# Altium integrated library Analog Devices Data Converters Analog-to-Digital Converters.IntLib: 2404 symbols (part 317 of 346)
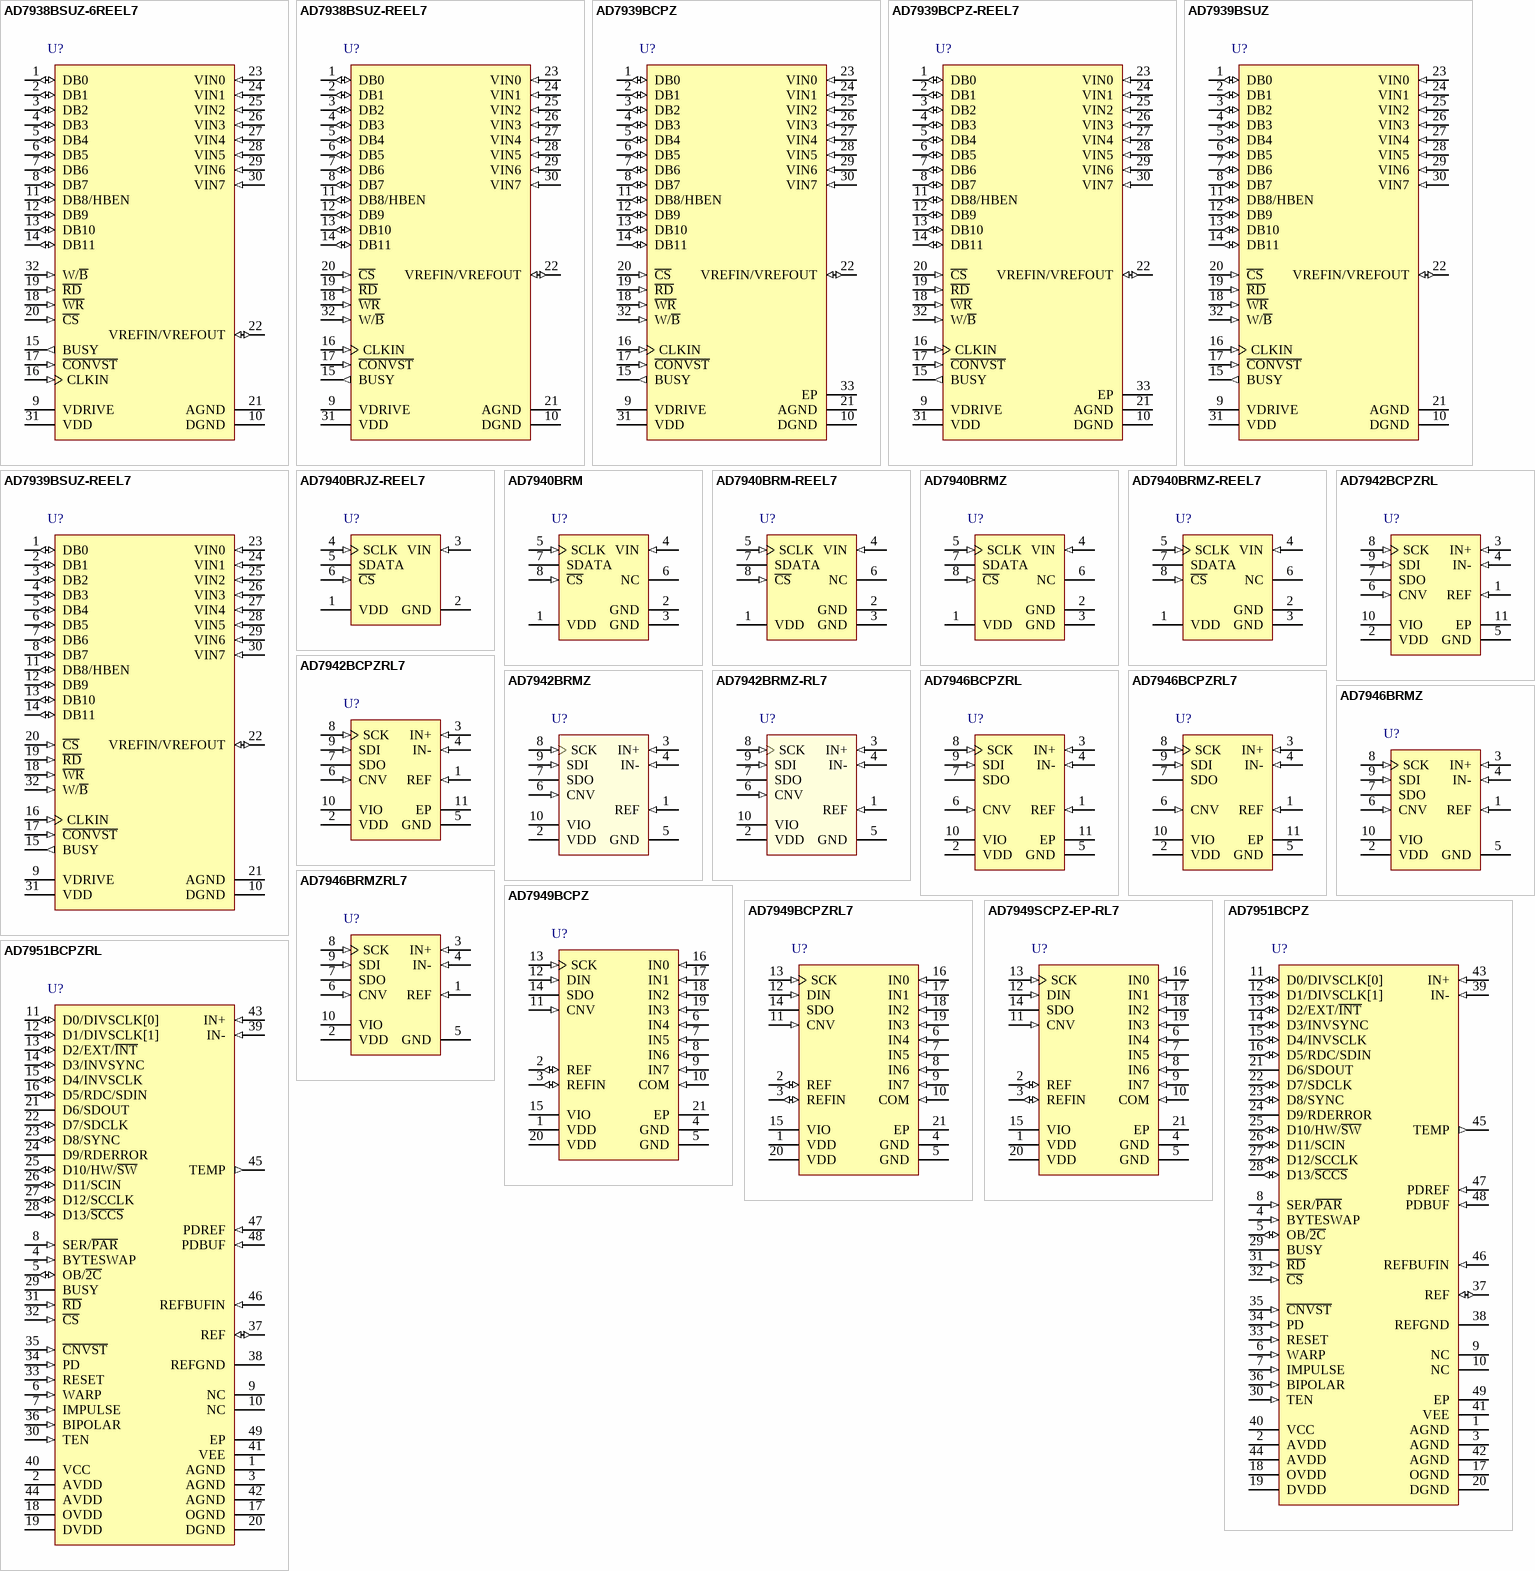
[diagram p325: symbols AD7938BSUZ-6REEL7 to AD7951BCPZRL]

## AD7939BSUZ-REEL7
designator U?
Octal 10-Bit Analog-to-Digital Converter with Byte, Parallel Interface and Sequencer, 1.5MSPS, -40 to +85 degC, SU-32-2, Pb-Free, Reel; Generic Part Number: AD7939; Manufacturer: Analog Devices; PartNumber: AD7939BSUZ-REEL7; Resolution (Bits): 10; Channels: 8; Throughput Rate (SPS): 1.5M; DatasheetVersion: Rev.C; PackageVersion: 2004; PackageReference: SU-32-2; PackageDescription: 32-Lead Thin Plastic Quad Flat Package [TQFP]; Supplier 1: Digi-Key; Supplier Part Number 1: AD7939BSUZ-REEL7-ND; Supplier 2: Mouser; Supplier Part Number 2: 584-AD7939BSUZ-R7; Interface: Byte, Par; RoHS: Y; Packing: Reel; Mounting Technology: Surface Mount; Code_JEDEC: MS-026-ABA; ComponentLink1Description: Manufacturer URL; ComponentLink1URL: http://www.analog.com/en/index.html; ComponentLink2Description: Datasheet; ComponentLink2URL: http://www.analog.com/static/imported-files/data_sheets/AD7938_7939.pdf; ComponentLink3Description: Package Specification; ComponentLink3URL: http://www.analog.com/static/imported-files/packages/6298531260360306615SU_32_2.pdf; ComponentLink4Description: Product URL; ComponentLink4URL: http://www.analog.com/en/analog-to-digital-converters/ad-converters/ad7939/products/product.html
footprint SU-32-2_N (Thin QFP, 32-Leads, Body 7x7mm, Pitch 0.8mm, IPC Medium Density)
footprint SU-32-2_L (Thin QFP, 32-Leads, Body 7x7mm, Pitch 0.8mm, IPC High Density)
footprint SU-32-2_M (Thin QFP, 32-Leads, Body 7x7mm, Pitch 0.8mm, IPC Low Density)
pins: 1 DB0 (io) "Data Bit 0 to Data Bit 7. Three-state parallel digital I/O pins that provide the conversion result and allow the control and shadow registers to be programmed. These pins are controlled by C\S\, R\D\, and W\R\. The logic (See Datasheet)", 2 DB1 (io) "Data Bit 0 to Data Bit 7. Three-state parallel digital I/O pins that provide the conversion result and allow the control and shadow registers to be programmed. These pins are controlled by C\S\, R\D\, and W\R\. The logic (See Datasheet)", 3 DB2 (io) "Data Bit 0 to Data Bit 7. Three-state parallel digital I/O pins that provide the conversion result and allow the control and shadow registers to be programmed. These pins are controlled by C\S\, R\D\, and W\R\. The logic (See Datasheet)", 4 DB3 (io) "Data Bit 0 to Data Bit 7. Three-state parallel digital I/O pins that provide the conversion result and allow the control and shadow registers to be programmed. These pins are controlled by C\S\, R\D\, and W\R\. The logic (See Datasheet)", 5 DB4 (io) "Data Bit 0 to Data Bit 7. Three-state parallel digital I/O pins that provide the conversion result and allow the control and shadow registers to be programmed. These pins are controlled by C\S\, R\D\, and W\R\. The logic (See Datasheet)", 6 DB5 (io) "Data Bit 0 to Data Bit 7. Three-state parallel digital I/O pins that provide the conversion result and allow the control and shadow registers to be programmed. These pins are controlled by C\S\, R\D\, and W\R\. The logic (See Datasheet)", 7 DB6 (io) "Data Bit 0 to Data Bit 7. Three-state parallel digital I/O pins that provide the conversion result and allow the control and shadow registers to be programmed. These pins are controlled by C\S\, R\D\, and W\R\. The logic (See Datasheet)", 8 DB7 (io) "Data Bit 0 to Data Bit 7. Three-state parallel digital I/O pins that provide the conversion result and allow the control and shadow registers to be programmed. These pins are controlled by C\S\, R\D\, and W\R\. The logic (See Datasheet)", 9 VDRIVE (power) "Logic Power Supply Input. The voltage supplied at this pin determines at what voltage the parallel interface of the AD7938/AD7939 operates. This pin should be decoupled to DGND. The voltage at this pin can be different to (See Datasheet)", 10 DGND (power) "Digital Ground. This is the ground reference point for all digital circuitry on the AD7938/AD7939. This pin should connect to the DGND plane of a system. The DGND and AGND voltages should ideally be at the same potential and (See Datasheet)", 11 DB8/HBEN (io) "Data Bit 8/High Byte Enable. When W/B\ is high, this pin acts as Data Bit 8, a three-state I/O pin that is controlled by C\S\, R\D\, and W\R\. When W/B\ is low, this pin acts as the high byte enable pin. When HBEN is low, (See Datasheet)", 12 DB9 (io) "Data Bit 9 to Data Bit 11. Three-state parallel digital I/O pins that provide the conversion result and allow the control and shadow registers to be programmed in word mode. These pins are controlled by C\S\, R\D\, and W\R\. (See Datasheet)", 13 DB10 (io) "Data Bit 9 to Data Bit 11. Three-state parallel digital I/O pins that provide the conversion result and allow the control and shadow registers to be programmed in word mode. These pins are controlled by C\S\, R\D\, and W\R\. (See Datasheet)", 14 DB11 (io) "Data Bit 9 to Data Bit 11. Three-state parallel digital I/O pins that provide the conversion result and allow the control and shadow registers to be programmed in word mode. These pins are controlled by C\S\, R\D\, and W\R\. (See Datasheet)", 15 BUSY (out) "Busy Output. Logic output that indicates the status of the conversion. The BUSY output goes high following the falling edge of C\O\N\V\S\T\ and stays high for the duration of the conversion. Once the conversion is complete (See Datasheet)", 16 CLKIN (in) "Master Clock Input. The clock source for the conversion process is applied to this pin. Conversion time for the AD7938/AD7939 takes 13 clock cycles + t2. The frequency of the master clock input therefore determines the (See Datasheet)", 17 ~{CONVST} (in) "Conversion Start Input. A falling edge on C\O\N\V\S\T\ is used to initiate a conversion. The track-and-hold goes from track mode to hold mode on the falling edge of C\O\N\V\S\T\ and the conversion process is initiated at (See Datasheet)", 18 ~{WR} (in) "Write Input. Active low logic input used in conjunction with C\S\ to write data to the internal registers.", 19 ~{RD} (in) "Read Input. Active low logic input used in conjunction with C\S\ to access the conversion result. The conversion result is placed on the data bus following the falling edge of R\D\ read while C\S\ is low.", 20 ~{CS} (in) "Chip Select. Active low logic input used in conjunction with R\D\ and W\R\ to read conversion data or to write data to the internal registers.", 21 AGND (power) "Analog Ground. This is the ground reference point for all analog circuitry on the AD7938/AD7939. All analog input signals and any external reference signal should be referred to this AGND voltage. The AGND and DGND voltages (See Datasheet)", 22 VREFIN/VREFOUT (io) "Reference Input/Output. This pin is connected to the internal reference and is the reference source for the ADC. The nominal internal reference voltage is 2.5 V, which appears at this pin. It is recommended that this pin is (See Datasheet)", 23 VIN0 (in) "Analog Input 0 to Analog Input 7. Eight analog input channels that are multiplexed into the on-chip track-and-hold. The analog inputs can be programmed to be eight single-ended inputs, four fully differential pairs, four (See Datasheet)", 24 VIN1 (in) "Analog Input 0 to Analog Input 7. Eight analog input channels that are multiplexed into the on-chip track-and-hold. The analog inputs can be programmed to be eight single-ended inputs, four fully differential pairs, four (See Datasheet)", 25 VIN2 (in) "Analog Input 0 to Analog Input 7. Eight analog input channels that are multiplexed into the on-chip track-and-hold. The analog inputs can be programmed to be eight single-ended inputs, four fully differential pairs, four (See Datasheet)", 26 VIN3 (in) "Analog Input 0 to Analog Input 7. Eight analog input channels that are multiplexed into the on-chip track-and-hold. The analog inputs can be programmed to be eight single-ended inputs, four fully differential pairs, four (See Datasheet)", 27 VIN4 (in) "Analog Input 0 to Analog Input 7. Eight analog input channels that are multiplexed into the on-chip track-and-hold. The analog inputs can be programmed to be eight single-ended inputs, four fully differential pairs, four (See Datasheet)", 28 VIN5 (in) "Analog Input 0 to Analog Input 7. Eight analog input channels that are multiplexed into the on-chip track-and-hold. The analog inputs can be programmed to be eight single-ended inputs, four fully differential pairs, four (See Datasheet)", 29 VIN6 (in) "Analog Input 0 to Analog Input 7. Eight analog input channels that are multiplexed into the on-chip track-and-hold. The analog inputs can be programmed to be eight single-ended inputs, four fully differential pairs, four (See Datasheet)", 30 VIN7 (in) "Analog Input 0 to Analog Input 7. Eight analog input channels that are multiplexed into the on-chip track-and-hold. The analog inputs can be programmed to be eight single-ended inputs, four fully differential pairs, four (See Datasheet)", 31 VDD (power) "Power Supply Input. The VDD range for the AD7938/AD7939 is 2.7 V to 5.25 V. The supply should be decoupled to AGND with a 0.1 uF capacitor and a 10 uF tantalum capacitor.", 32 W/~{B} (in) "Word/Byte Input. When this input is logic high, data is transferred to and from the AD7938/AD7939 in 12-bit/10-bit words on the DB0/DB2 to DB11 pins. When this pin is logic low, byte transfer mode is enabled. Data and the (See Datasheet)"

## AD7940BRJZ-REEL7
designator U?
Single 14-Bit Analog-to-Digital Converter with Serial, SPI Interface, 100KSPS, -40 to +85 degC, RJ-6, Pb-Free, Reel; Generic Part Number: AD7940; Manufacturer: Analog Devices; PartNumber: AD7940BRJZ-REEL7; Resolution (Bits): 14; Channels: 1; Throughput Rate (SPS): 100K; Interface: Ser, SPI; DatasheetVersion: Rev.A; PackageVersion: 121608-A; PackageReference: RJ-6; PackageDescription: 6-Lead Small Outline Transistor Package [SOT-23]; Supplier 1: Digi-Key; Supplier Part Number 1: AD7940BRJZ-REEL7TR-ND; Supplier 2: Digi-Key; Supplier Part Number 2: AD7940BRJZ-REEL7CT-ND; Supplier 3: Digi-Key; Supplier Part Number 3: AD7940BRJZ-REEL7DKR-ND; Supplier 4: Farnell; Supplier Part Number 4: 2314108; Supplier 5: Newark; Supplier Part Number 5: 67W2740; Supplier 6: Newark; Supplier Part Number 6: 59K6058; Supplier 7: Mouser; Supplier Part Number 7: 584-AD7940BRJZ-R7; RoHS: Y; Packing: Reel; Mounting Technology: Surface Mount; Code_JEDEC: MO-178-AB; ComponentLink1Description: Manufacturer URL; ComponentLink1URL: http://www.analog.com/en/index.html; ComponentLink2Description: Datasheet; ComponentLink2URL: http://www.analog.com/static/imported-files/data_sheets/AD7940.pdf; ComponentLink3Description: Package Specification; ComponentLink3URL: http://www.analog.com/static/imported-files/packages/PKG_PDF/SOT-23(RJ)/RJ_6.pdf; ComponentLink4Description: Product URL; ComponentLink4URL: http://www.analog.com/en/analog-to-digital-converters/ad-converters/ad7940/products/product.html
footprint RJ-6_N (SOT23, 6-Leads, Body 2.9x1.6mm, Pitch 0.95mm, Lead Span 2.8mm, IPC Medium Density)
footprint RJ-6_L (SOT23, 6-Leads, Body 2.9x1.6mm, Pitch 0.95mm, Lead Span 2.8mm, IPC High Density)
footprint RJ-6_M (SOT23, 6-Leads, Body 2.9x1.6mm, Pitch 0.95mm, Lead Span 2.8mm, IPC Low Density)
pins: 1 VDD (power) "Power Supply Input. The VDD range for the AD7940 is from 2.5 V to 5.5 V.", 2 GND (power) "Analog Ground. Ground reference point for all circuitry on the AD7940. All analog input signals should be referred to this GND voltage.", 3 VIN (in) "Analog Input. Single-ended analog input channel. The input range is 0 V to VDD.", 4 SCLK (in) "Serial Clock. Logic input. SCLK provides the serial clock for accessing data from this part. This clock input is also used as the clock source for the AD7940's conversion process.", 5 SDATA (hiz) "Data Out. Logic output. The conversion result from the AD7940 is provided on this output as a serial data stream. The bits are clocked out on the falling edge of the SCLK input. The data stream from the AD7940 consists of (See Datasheet)", 6 ~{CS} (in) "Chip Select. Active low logic input. This input provides the dual function of initiating conversions on the AD7940 and framing the serial data transfer."

## AD7940BRM
designator U?
Single 14-Bit Analog-to-Digital Converter with Serial, SPI Interface, 100KSPS, -40 to +85 degC, RM-8, Tube; Generic Part Number: AD7940; Manufacturer: Analog Devices; PartNumber: AD7940BRM; Resolution (Bits): 14; Channels: 1; Throughput Rate (SPS): 100K; Interface: Ser, SPI; DatasheetVersion: Rev.A; PackageVersion: Aug-2005; PackageReference: RM-8; PackageDescription: 8-Lead Mini Small Outline Package [MSOP]; Supplier 1: Digi-Key; Supplier Part Number 1: AD7940BRM-ND; Supplier 2: Farnell; Supplier Part Number 2: 8397783; Supplier 3: Newark; Supplier Part Number 3: 31M4413; Supplier 4: Mouser; Supplier Part Number 4: 584-AD7940BRM; RoHS: N; Packing: Tube; Mounting Technology: Surface Mount; Code_JEDEC: MO-187-AA; ComponentLink1Description: Manufacturer URL; ComponentLink1URL: http://www.analog.com/en/index.html; ComponentLink2Description: Datasheet; ComponentLink2URL: http://www.analog.com/static/imported-files/data_sheets/AD7940.pdf; ComponentLink3Description: Package Specification; ComponentLink3URL: http://www.analog.com/static/imported-files/packages/PKG_PDF/MSOP%28RM%29/RM_8.pdf; ComponentLink4Description: Product URL; ComponentLink4URL: http://www.analog.com/en/analog-to-digital-converters/ad-converters/ad7940/products/product.html
footprint RM-8_N (TSOP, 8-Leads, Body 3x3mm, Pitch 0.65mm, IPC Medium Density)
footprint RM-8_L (TSOP, 8-Leads, Body 3x3mm, Pitch 0.65mm, IPC High Density)
footprint RM-8_M (TSOP, 8-Leads, Body 3x3mm, Pitch 0.65mm, IPC Low Density)
pins: 1 VDD (power) "Power Supply Input. The VDD range for the AD7940 is from 2.5 V to 5.5 V.", 2 GND (power) "Analog Ground. Ground reference point for all circuitry on the AD7940. All analog input signals should be referred to this GND voltage.", 3 GND (power) "Analog Ground. Ground reference point for all circuitry on the AD7940. All analog input signals should be referred to this GND voltage.", 4 VIN (in) "Analog Input. Single-ended analog input channel. The input range is 0 V to VDD.", 5 SCLK (in) "Serial Clock. Logic input. SCLK provides the serial clock for accessing data from this part. This clock input is also used as the clock source for the AD7940's conversion process.", 6 NC "No Connect. This pin should be left unconnected.", 7 SDATA (hiz) "Data Out. Logic output. The conversion result from the AD7940 is provided on this output as a serial data stream. The bits are clocked out on the falling edge of the SCLK input. The data stream from the AD7940 consists of (See Datasheet)", 8 ~{CS} (in) "Chip Select. Active low logic input. This input provides the dual function of initiating conversions on the AD7940 and framing the serial data transfer."

## AD7940BRM-REEL7
designator U?
Single 14-Bit Analog-to-Digital Converter with Serial, SPI Interface, 100KSPS, -40 to +85 degC, RM-8, Reel; Generic Part Number: AD7940; Manufacturer: Analog Devices; PartNumber: AD7940BRM-REEL7; Resolution (Bits): 14; Channels: 1; Throughput Rate (SPS): 100K; Interface: Ser, SPI; DatasheetVersion: Rev.A; PackageVersion: Aug-2005; PackageReference: RM-8; PackageDescription: 8-Lead Mini Small Outline Package [MSOP]; Supplier 1: Digi-Key; Supplier Part Number 1: AD7940BRM-REEL7TR-ND; Supplier 2: Mouser; Supplier Part Number 2: 584-AD7940BRM-R7; RoHS: N; Packing: Reel; Mounting Technology: Surface Mount; Code_JEDEC: MO-187-AA; ComponentLink1Description: Manufacturer URL; ComponentLink1URL: http://www.analog.com/en/index.html; ComponentLink2Description: Datasheet; ComponentLink2URL: http://www.analog.com/static/imported-files/data_sheets/AD7940.pdf; ComponentLink3Description: Package Specification; ComponentLink3URL: http://www.analog.com/static/imported-files/packages/PKG_PDF/MSOP%28RM%29/RM_8.pdf; ComponentLink4Description: Product URL; ComponentLink4URL: http://www.analog.com/en/analog-to-digital-converters/ad-converters/ad7940/products/product.html
footprint RM-8_N (TSOP, 8-Leads, Body 3x3mm, Pitch 0.65mm, IPC Medium Density)
footprint RM-8_L (TSOP, 8-Leads, Body 3x3mm, Pitch 0.65mm, IPC High Density)
footprint RM-8_M (TSOP, 8-Leads, Body 3x3mm, Pitch 0.65mm, IPC Low Density)
pins: 1 VDD (power) "Power Supply Input. The VDD range for the AD7940 is from 2.5 V to 5.5 V.", 2 GND (power) "Analog Ground. Ground reference point for all circuitry on the AD7940. All analog input signals should be referred to this GND voltage.", 3 GND (power) "Analog Ground. Ground reference point for all circuitry on the AD7940. All analog input signals should be referred to this GND voltage.", 4 VIN (in) "Analog Input. Single-ended analog input channel. The input range is 0 V to VDD.", 5 SCLK (in) "Serial Clock. Logic input. SCLK provides the serial clock for accessing data from this part. This clock input is also used as the clock source for the AD7940's conversion process.", 6 NC "No Connect. This pin should be left unconnected.", 7 SDATA (hiz) "Data Out. Logic output. The conversion result from the AD7940 is provided on this output as a serial data stream. The bits are clocked out on the falling edge of the SCLK input. The data stream from the AD7940 consists of (See Datasheet)", 8 ~{CS} (in) "Chip Select. Active low logic input. This input provides the dual function of initiating conversions on the AD7940 and framing the serial data transfer."

## AD7940BRMZ
designator U?
Single 14-Bit Analog-to-Digital Converter with Serial, SPI Interface, 100KSPS, -40 to +85 degC, RM-8, Pb-Free, Tube; Generic Part Number: AD7940; Manufacturer: Analog Devices; PartNumber: AD7940BRMZ; Resolution (Bits): 14; Channels: 1; Throughput Rate (SPS): 100K; Interface: Ser, SPI; DatasheetVersion: Rev.A; PackageVersion: Aug-2005; PackageReference: RM-8; PackageDescription: 8-Lead Mini Small Outline Package [MSOP]; Supplier 1: Digi-Key; Supplier Part Number 1: AD7940BRMZ-ND; Supplier 2: Newark; Supplier Part Number 2: 74R5997; Supplier 3: Mouser; Supplier Part Number 3: 584-AD7940BRMZ; RoHS: Y; Packing: Tube; Mounting Technology: Surface Mount; Code_JEDEC: MO-187-AA; ComponentLink1Description: Manufacturer URL; ComponentLink1URL: http://www.analog.com/en/index.html; ComponentLink2Description: Datasheet; ComponentLink2URL: http://www.analog.com/static/imported-files/data_sheets/AD7940.pdf; ComponentLink3Description: Package Specification; ComponentLink3URL: http://www.analog.com/static/imported-files/packages/PKG_PDF/MSOP%28RM%29/RM_8.pdf; ComponentLink4Description: Product URL; ComponentLink4URL: http://www.analog.com/en/analog-to-digital-converters/ad-converters/ad7940/products/product.html
footprint RM-8_N (TSOP, 8-Leads, Body 3x3mm, Pitch 0.65mm, IPC Medium Density)
footprint RM-8_L (TSOP, 8-Leads, Body 3x3mm, Pitch 0.65mm, IPC High Density)
footprint RM-8_M (TSOP, 8-Leads, Body 3x3mm, Pitch 0.65mm, IPC Low Density)
pins: 1 VDD (power) "Power Supply Input. The VDD range for the AD7940 is from 2.5 V to 5.5 V.", 2 GND (power) "Analog Ground. Ground reference point for all circuitry on the AD7940. All analog input signals should be referred to this GND voltage.", 3 GND (power) "Analog Ground. Ground reference point for all circuitry on the AD7940. All analog input signals should be referred to this GND voltage.", 4 VIN (in) "Analog Input. Single-ended analog input channel. The input range is 0 V to VDD.", 5 SCLK (in) "Serial Clock. Logic input. SCLK provides the serial clock for accessing data from this part. This clock input is also used as the clock source for the AD7940's conversion process.", 6 NC "No Connect. This pin should be left unconnected.", 7 SDATA (hiz) "Data Out. Logic output. The conversion result from the AD7940 is provided on this output as a serial data stream. The bits are clocked out on the falling edge of the SCLK input. The data stream from the AD7940 consists of (See Datasheet)", 8 ~{CS} (in) "Chip Select. Active low logic input. This input provides the dual function of initiating conversions on the AD7940 and framing the serial data transfer."

## AD7940BRMZ-REEL7
designator U?
Single 14-Bit Analog-to-Digital Converter with Serial, SPI Interface, 100KSPS, -40 to +85 degC, RM-8, Pb-Free, Reel; Generic Part Number: AD7940; Manufacturer: Analog Devices; PartNumber: AD7940BRMZ-REEL7; Resolution (Bits): 14; Channels: 1; Throughput Rate (SPS): 100K; Interface: Ser, SPI; DatasheetVersion: Rev.A; PackageVersion: Aug-2005; PackageReference: RM-8; PackageDescription: 8-Lead Mini Small Outline Package [MSOP]; Supplier 1: Digi-Key; Supplier Part Number 1: AD7940BRMZ-REEL7TR-ND; Supplier 2: Digi-Key; Supplier Part Number 2: AD7940BRMZ-REEL7CT-ND; Supplier 3: Digi-Key; Supplier Part Number 3: AD7940BRMZ-REEL7DKR-ND; Supplier 4: Mouser; Supplier Part Number 4: 584-AD7940BRMZ-R7; RoHS: Y; Packing: Reel; Mounting Technology: Surface Mount; Code_JEDEC: MO-187-AA; ComponentLink1Description: Manufacturer URL; ComponentLink1URL: http://www.analog.com/en/index.html; ComponentLink2Description: Datasheet; ComponentLink2URL: http://www.analog.com/static/imported-files/data_sheets/AD7940.pdf; ComponentLink3Description: Package Specification; ComponentLink3URL: http://www.analog.com/static/imported-files/packages/PKG_PDF/MSOP%28RM%29/RM_8.pdf; ComponentLink4Description: Product URL; ComponentLink4URL: http://www.analog.com/en/analog-to-digital-converters/ad-converters/ad7940/products/product.html
footprint RM-8_N (TSOP, 8-Leads, Body 3x3mm, Pitch 0.65mm, IPC Medium Density)
footprint RM-8_L (TSOP, 8-Leads, Body 3x3mm, Pitch 0.65mm, IPC High Density)
footprint RM-8_M (TSOP, 8-Leads, Body 3x3mm, Pitch 0.65mm, IPC Low Density)
pins: 1 VDD (power) "Power Supply Input. The VDD range for the AD7940 is from 2.5 V to 5.5 V.", 2 GND (power) "Analog Ground. Ground reference point for all circuitry on the AD7940. All analog input signals should be referred to this GND voltage.", 3 GND (power) "Analog Ground. Ground reference point for all circuitry on the AD7940. All analog input signals should be referred to this GND voltage.", 4 VIN (in) "Analog Input. Single-ended analog input channel. The input range is 0 V to VDD.", 5 SCLK (in) "Serial Clock. Logic input. SCLK provides the serial clock for accessing data from this part. This clock input is also used as the clock source for the AD7940's conversion process.", 6 NC "No Connect. This pin should be left unconnected.", 7 SDATA (hiz) "Data Out. Logic output. The conversion result from the AD7940 is provided on this output as a serial data stream. The bits are clocked out on the falling edge of the SCLK input. The data stream from the AD7940 consists of (See Datasheet)", 8 ~{CS} (in) "Chip Select. Active low logic input. This input provides the dual function of initiating conversions on the AD7940 and framing the serial data transfer."

## AD7942BCPZRL
designator U?
Single 14-Bit PulSAR Analog-to-Digital Converter with Serial, SPI Interface, 250KSPS, -40 to +85 degC, CP-10-9, Pb-Free, Reel; Generic Part Number: AD7942; Manufacturer: Analog Devices; PartNumber: AD7942BCPZRL; Resolution (Bits): 14; Channels: 1; Throughput Rate (SPS): 250K; Interface: Ser, SPI; DatasheetVersion: Rev.B; PackageVersion: 02-27-2012-B; PackageReference: CP-10-9; PackageDescription: 10-Lead Lead Frame Chip Scale Package [LFCSP_WD] 3 x 3 mm Body, Very Very Thin, Dual Lead; Supplier 1: Digi-Key; Supplier Part Number 1: AD7942BCPZRL-ND; Supplier 2: Newark; Supplier Part Number 2: 12M9009; Supplier 3: Mouser; Supplier Part Number 3: 584-AD7942BCPZR; RoHS: Y; Packing: Reel; Mounting Technology: Surface Mount; ComponentLink1Description: Manufacturer URL; ComponentLink1URL: http://www.analog.com/en/index.html; ComponentLink2Description: Datasheet; ComponentLink2URL: http://www.analog.com/static/imported-files/data_sheets/AD7942.pdf; ComponentLink3Description: Package Specification; ComponentLink3URL: http://www.analog.com/static/imported-files/packages/CP_10_9.pdf; ComponentLink4Description: Product URL; ComponentLink4URL: http://www.analog.com/en/analog-to-digital-converters/ad-converters/ad7942/products/product.html
footprint CP-10-9_N (SON, 10-Leads, Body 3x3mm, Pitch 0.5mm, Thermal Pad 2.35x1.6mm, IPC Medium Density)
footprint CP-10-9_L (SON, 10-Leads, Body 3x3mm, Pitch 0.5mm, Thermal Pad 2.35x1.6mm, IPC High Density)
footprint CP-10-9_M (SON, 10-Leads, Body 3x3mm, Pitch 0.5mm, Thermal Pad 2.35x1.6mm, IPC Low Density)
pins: 1 REF (in) "Reference Input Voltage. The VREF range is from 0.5 V to VDD. REF is referred to the GND pin. Decouple REF as closely as possible to a 10 uF capacitor.", 2 VDD (power) "Power Supply.", 3 IN+ (in) "Analog Input. IN+ is referred to IN-. The voltage range, that is, the difference between IN+ and IN-, is 0 V  to VREF.", 4 IN- (in) "Analog Input Ground Sense. Connect IN- to the analog ground plane or to a remote sense ground.", 5 GND (power) "Power Supply Ground.", 6 CNV (in) "Convert Input. This input pin has multiple functions. On its leading edge, CNV initiates the conversions and selects the interface mode of the part: chain mode or C\S\ mode. In C\S\ mode, CNV enables the SDO pin when low. In (See Datasheet)", 7 SDO (hiz) "Serial Data Output. The conversion result is output on this pin. It is synchronized to SCK.", 8 SCK (in) "Serial Data Clock Input. When the part is selected, the conversion result is shifted out by this clock.", 9 SDI (in) "Serial Data Input. This input provides multiple features. It selects the interface mode of the ADC as follows: Chain mode is selected if SDI is low during the CNV rising edge. In this mode, SDI is used as a data input to (See Datasheet)", 10 VIO (power) "Input/Output Interface Digital Power. Nominally at the same supply as the host interface (1.8 V, 2.5 V, 3 V, or 5 V).", 11 EP (power) "Exposed Paddle. The exposed paddle is the only ground connection."

## AD7942BCPZRL7
designator U?
Single 14-Bit PulSAR Analog-to-Digital Converter with Serial, SPI Interface, 250KSPS, -40 to +85 degC, CP-10-9, Pb-Free, Reel; Generic Part Number: AD7942; Manufacturer: Analog Devices; PartNumber: AD7942BCPZRL7; Resolution (Bits): 14; Channels: 1; Throughput Rate (SPS): 250K; Interface: Ser, SPI; DatasheetVersion: Rev.B; PackageVersion: 02-27-2012-B; PackageReference: CP-10-9; PackageDescription: 10-Lead Lead Frame Chip Scale Package [LFCSP_WD] 3 x 3 mm Body, Very Very Thin, Dual Lead; Supplier 1: Digi-Key; Supplier Part Number 1: AD7942BCPZRL7TR-ND; Supplier 2: Digi-Key; Supplier Part Number 2: AD7942BCPZRL7CT-ND; Supplier 3: Digi-Key; Supplier Part Number 3: AD7942BCPZRL7DKR-ND; Supplier 4: Newark; Supplier Part Number 4: 12M9010; Supplier 5: Mouser; Supplier Part Number 5: 584-AD7942BCPZR7; RoHS: Y; Packing: Reel; Mounting Technology: Surface Mount; ComponentLink1Description: Manufacturer URL; ComponentLink1URL: http://www.analog.com/en/index.html; ComponentLink2Description: Datasheet; ComponentLink2URL: http://www.analog.com/static/imported-files/data_sheets/AD7942.pdf; ComponentLink3Description: Package Specification; ComponentLink3URL: http://www.analog.com/static/imported-files/packages/CP_10_9.pdf; ComponentLink4Description: Product URL; ComponentLink4URL: http://www.analog.com/en/analog-to-digital-converters/ad-converters/ad7942/products/product.html
footprint CP-10-9_N (SON, 10-Leads, Body 3x3mm, Pitch 0.5mm, Thermal Pad 2.35x1.6mm, IPC Medium Density)
footprint CP-10-9_L (SON, 10-Leads, Body 3x3mm, Pitch 0.5mm, Thermal Pad 2.35x1.6mm, IPC High Density)
footprint CP-10-9_M (SON, 10-Leads, Body 3x3mm, Pitch 0.5mm, Thermal Pad 2.35x1.6mm, IPC Low Density)
pins: 1 REF (in) "Reference Input Voltage. The VREF range is from 0.5 V to VDD. REF is referred to the GND pin. Decouple REF as closely as possible to a 10 uF capacitor.", 2 VDD (power) "Power Supply.", 3 IN+ (in) "Analog Input. IN+ is referred to IN-. The voltage range, that is, the difference between IN+ and IN-, is 0 V  to VREF.", 4 IN- (in) "Analog Input Ground Sense. Connect IN- to the analog ground plane or to a remote sense ground.", 5 GND (power) "Power Supply Ground.", 6 CNV (in) "Convert Input. This input pin has multiple functions. On its leading edge, CNV initiates the conversions and selects the interface mode of the part: chain mode or C\S\ mode. In C\S\ mode, CNV enables the SDO pin when low. In (See Datasheet)", 7 SDO (hiz) "Serial Data Output. The conversion result is output on this pin. It is synchronized to SCK.", 8 SCK (in) "Serial Data Clock Input. When the part is selected, the conversion result is shifted out by this clock.", 9 SDI (in) "Serial Data Input. This input provides multiple features. It selects the interface mode of the ADC as follows: Chain mode is selected if SDI is low during the CNV rising edge. In this mode, SDI is used as a data input to (See Datasheet)", 10 VIO (power) "Input/Output Interface Digital Power. Nominally at the same supply as the host interface (1.8 V, 2.5 V, 3 V, or 5 V).", 11 EP (power) "Exposed Paddle. The exposed paddle is the only ground connection."

## AD7942BRMZ
designator U?
Single 14-Bit PulSAR Analog-to-Digital Converter with Serial, SPI Interface, 250KSPS, -40 to +85 degC, RM-10, Pb-Free, Tube; Generic Part Number: AD7942; Manufacturer: Analog Devices; PartNumber: AD7942BRMZ; Resolution (Bits): 14; Channels: 1; Throughput Rate (SPS): 250K; Interface: Ser, SPI; DatasheetVersion: Rev.B; PackageVersion: May-2005; PackageReference: RM-10; PackageDescription: 10-Lead Mini Small Outline Package [MSOP]; Supplier 1: Digi-Key; Supplier Part Number 1: AD7942BRMZ-ND; Supplier 2: Farnell; Supplier Part Number 2: 1117894; Supplier 3: Newark; Supplier Part Number 3: 31M4414; Supplier 4: Newark; Supplier Part Number 4: 12M9011; Supplier 5: Mouser; Supplier Part Number 5: 584-AD7942BRMZ; RoHS: Y; Packing: Tube; Mounting Technology: Surface Mount; ComponentLink1Description: Manufacturer URL; ComponentLink1URL: http://www.analog.com/en/index.html; ComponentLink2Description: Datasheet; ComponentLink2URL: http://www.analog.com/static/imported-files/data_sheets/AD7942.pdf; ComponentLink3Description: Package Specification; ComponentLink3URL: http://www.analog.com/static/imported-files/packages/PKG_PDF/MSOP%28RM%29/RM_10.pdf; ComponentLink4Description: Product URL; ComponentLink4URL: http://www.analog.com/en/analog-to-digital-converters/ad-converters/ad7942/products/product.html
footprint RM-10_N (TSSOP, 10-Leads, Body 3x3mm, Pitch 0.5mm, IPC Medium Density)
footprint RM-10_L (TSSOP, 10-Leads, Body 3x3mm, Pitch 0.5mm, IPC High Density)
footprint RM-10_M (TSSOP, 10-Leads, Body 3x3mm, Pitch 0.5mm, IPC Low Density)
pins: 1 REF (in) "Reference Input Voltage. The VREF range is from 0.5 V to VDD. REF is referred to the GND pin. Decouple REF as closely as possible to a 10 uF capacitor.", 2 VDD (power) "Power Supply.", 3 IN+ (in) "Analog Input. IN+ is referred to IN-. The voltage range, that is, the difference between IN+ and IN-, is 0 V  to VREF.", 4 IN- (in) "Analog Input Ground Sense. Connect IN- to the analog ground plane or to a remote sense ground.", 5 GND (power) "Power Supply Ground.", 6 CNV (in) "Convert Input. This input pin has multiple functions. On its leading edge, CNV initiates the conversions and selects the interface mode of the part: chain mode or C\S\ mode. In C\S\ mode, CNV enables the SDO pin when low. In (See Datasheet)", 7 SDO (hiz) "Serial Data Output. The conversion result is output on this pin. It is synchronized to SCK.", 8 SCK (in) "Serial Data Clock Input. When the part is selected, the conversion result is shifted out by this clock.", 9 SDI (in) "Serial Data Input. This input provides multiple features. It selects the interface mode of the ADC as follows: Chain mode is selected if SDI is low during the CNV rising edge. In this mode, SDI is used as a data input to (See Datasheet)", 10 VIO (power) "Input/Output Interface Digital Power. Nominally at the same supply as the host interface (1.8 V, 2.5 V, 3 V, or 5 V)."

## AD7942BRMZ-RL7
designator U?
Single 14-Bit PulSAR Analog-to-Digital Converter with Serial, SPI Interface, 250KSPS, -40 to +85 degC, RM-10, Pb-Free, Reel; Generic Part Number: AD7942; Manufacturer: Analog Devices; PartNumber: AD7942BRMZ-RL7; Resolution (Bits): 14; Channels: 1; Throughput Rate (SPS): 250K; Interface: Ser, SPI; DatasheetVersion: Rev.B; PackageVersion: May-2005; PackageReference: RM-10; PackageDescription: 10-Lead Mini Small Outline Package [MSOP]; Supplier 1: Digi-Key; Supplier Part Number 1: AD7942BRMZ-RL7TR-ND; Supplier 2: Digi-Key; Supplier Part Number 2: AD7942BRMZ-RL7CT-ND; Supplier 3: Digi-Key; Supplier Part Number 3: AD7942BRMZ-RL7DKR-ND; Supplier 4: Newark; Supplier Part Number 4: 12M9012; Supplier 5: Mouser; Supplier Part Number 5: 584-AD7942BRMZ-R7; RoHS: Y; Packing: Reel; Mounting Technology: Surface Mount; ComponentLink1Description: Manufacturer URL; ComponentLink1URL: http://www.analog.com/en/index.html; ComponentLink2Description: Datasheet; ComponentLink2URL: http://www.analog.com/static/imported-files/data_sheets/AD7942.pdf; ComponentLink3Description: Package Specification; ComponentLink3URL: http://www.analog.com/static/imported-files/packages/PKG_PDF/MSOP%28RM%29/RM_10.pdf; ComponentLink4Description: Product URL; ComponentLink4URL: http://www.analog.com/en/analog-to-digital-converters/ad-converters/ad7942/products/product.html
footprint RM-10_N (TSSOP, 10-Leads, Body 3x3mm, Pitch 0.5mm, IPC Medium Density)
footprint RM-10_L (TSSOP, 10-Leads, Body 3x3mm, Pitch 0.5mm, IPC High Density)
footprint RM-10_M (TSSOP, 10-Leads, Body 3x3mm, Pitch 0.5mm, IPC Low Density)
pins: 1 REF (in) "Reference Input Voltage. The VREF range is from 0.5 V to VDD. REF is referred to the GND pin. Decouple REF as closely as possible to a 10 uF capacitor.", 2 VDD (power) "Power Supply.", 3 IN+ (in) "Analog Input. IN+ is referred to IN-. The voltage range, that is, the difference between IN+ and IN-, is 0 V  to VREF.", 4 IN- (in) "Analog Input Ground Sense. Connect IN- to the analog ground plane or to a remote sense ground.", 5 GND (power) "Power Supply Ground.", 6 CNV (in) "Convert Input. This input pin has multiple functions. On its leading edge, CNV initiates the conversions and selects the interface mode of the part: chain mode or C\S\ mode. In C\S\ mode, CNV enables the SDO pin when low. In (See Datasheet)", 7 SDO (hiz) "Serial Data Output. The conversion result is output on this pin. It is synchronized to SCK.", 8 SCK (in) "Serial Data Clock Input. When the part is selected, the conversion result is shifted out by this clock.", 9 SDI (in) "Serial Data Input. This input provides multiple features. It selects the interface mode of the ADC as follows: Chain mode is selected if SDI is low during the CNV rising edge. In this mode, SDI is used as a data input to (See Datasheet)", 10 VIO (power) "Input/Output Interface Digital Power. Nominally at the same supply as the host interface (1.8 V, 2.5 V, 3 V, or 5 V)."

## AD7946BCPZRL
designator U?
Single 14-Bit PulSAR Analog-to-Digital Converter with Serial, SPI Interface, 500KSPS, -40 to +85 degC, CP-10-9, Pb-Free, Reel; Generic Part Number: AD7946; Manufacturer: Analog Devices; PartNumber: AD7946BCPZRL; Resolution (Bits): 14; Channels: 1; Throughput Rate (SPS): 500K; Interface: Ser, SPI; DatasheetVersion: Rev.A; PackageVersion: 02-27-2012-B; PackageReference: CP-10-9; PackageDescription: 10-Lead Lead Frame Chip Scale Package [LFCSP_WD] 3 x 3 mm Body, Very Very Thin, Dual Lead; Supplier 1: Digi-Key; Supplier Part Number 1: AD7946BCPZRL-ND; Supplier 2: Mouser; Supplier Part Number 2: 584-AD7946BCPZR; RoHS: Y; Packing: Reel; Mounting Technology: Surface Mount; ComponentLink1Description: Manufacturer URL; ComponentLink1URL: http://www.analog.com/en/index.html; ComponentLink2Description: Datasheet; ComponentLink2URL: http://www.analog.com/static/imported-files/data_sheets/AD7946.pdf; ComponentLink3Description: Package Specification; ComponentLink3URL: http://www.analog.com/static/imported-files/packages/CP_10_9.pdf; ComponentLink4Description: Product URL; ComponentLink4URL: http://www.analog.com/en/analog-to-digital-converters/ad-converters/ad7946/products/product.html
footprint CP-10-9_N (SON, 10-Leads, Body 3x3mm, Pitch 0.5mm, Thermal Pad 2.35x1.6mm, IPC Medium Density)
footprint CP-10-9_L (SON, 10-Leads, Body 3x3mm, Pitch 0.5mm, Thermal Pad 2.35x1.6mm, IPC High Density)
footprint CP-10-9_M (SON, 10-Leads, Body 3x3mm, Pitch 0.5mm, Thermal Pad 2.35x1.6mm, IPC Low Density)
pins: 1 REF (in) "Reference Input Voltage. The REF range is from 0.5 V to VDD, and is referred to the GND pin. This pin should be decoupled closely to the pin with a 10 uF capacitor.", 2 VDD (power) "Power Supply.", 3 IN+ (in) "Analog Input. It is referred to IN?. The voltage range, that is, the difference between IN+ and IN-, is 0 V to REF.", 4 IN- (in) "Analog Input Ground Sense. Connect to the analog ground plane or to a remote sense ground.", 5 GND (power) "Power Supply Ground.", 6 CNV (in) "Convert Input. This input has multiple functions. On its leading edge, it initiates the conversions and selects the interface mode, chain, or CS. In CS mode, it enables the SDO pin when low. In chain mode, the data should be (See Datasheet)", 7 SDO (hiz) "Serial Data Output. The conversion result is output on this pin. It is synchronized to SCK.", 8 SCK (in) "Serial Data Clock Input. When the part is selected, the conversion result is shifted out by this clock.", 9 SDI (in) "Serial Data Input. This input provides multiple features. It selects the interface mode of the ADC as follows:Chain mode is selected if SDI is low during the CNV rising edge. In this mode, SDI is used as a data input to (See Datasheet)", 10 VIO (power) "Input/Output Interface Digital Power. Nominally at the same supply as the host interface (1.8 V, 2.5 V, 3 V, or 5 V).", 11 EP (power) "Exposed pad."

## AD7946BCPZRL7
designator U?
Single 14-Bit PulSAR Analog-to-Digital Converter with Serial, SPI Interface, 500KSPS, -40 to +85 degC, CP-10-9, Pb-Free, Reel; Generic Part Number: AD7946; Manufacturer: Analog Devices; PartNumber: AD7946BCPZRL7; Resolution (Bits): 14; Channels: 1; Throughput Rate (SPS): 500K; Interface: Ser, SPI; DatasheetVersion: Rev.A; PackageVersion: 02-27-2012-B; PackageReference: CP-10-9; PackageDescription: 10-Lead Lead Frame Chip Scale Package [LFCSP_WD] 3 x 3 mm Body, Very Very Thin, Dual Lead; Supplier 1: Digi-Key; Supplier Part Number 1: AD7946BCPZRL7TR-ND; Supplier 2: Digi-Key; Supplier Part Number 2: AD7946BCPZRL7CT-ND; Supplier 3: Digi-Key; Supplier Part Number 3: AD7946BCPZRL7DKR-ND; Supplier 4: Mouser; Supplier Part Number 4: 584-AD7946BCPZR7; RoHS: Y; Packing: Reel; Mounting Technology: Surface Mount; ComponentLink1Description: Manufacturer URL; ComponentLink1URL: http://www.analog.com/en/index.html; ComponentLink2Description: Datasheet; ComponentLink2URL: http://www.analog.com/static/imported-files/data_sheets/AD7946.pdf; ComponentLink3Description: Package Specification; ComponentLink3URL: http://www.analog.com/static/imported-files/packages/CP_10_9.pdf; ComponentLink4Description: Product URL; ComponentLink4URL: http://www.analog.com/en/analog-to-digital-converters/ad-converters/ad7946/products/product.html
footprint CP-10-9_N (SON, 10-Leads, Body 3x3mm, Pitch 0.5mm, Thermal Pad 2.35x1.6mm, IPC Medium Density)
footprint CP-10-9_L (SON, 10-Leads, Body 3x3mm, Pitch 0.5mm, Thermal Pad 2.35x1.6mm, IPC High Density)
footprint CP-10-9_M (SON, 10-Leads, Body 3x3mm, Pitch 0.5mm, Thermal Pad 2.35x1.6mm, IPC Low Density)
pins: 1 REF (in) "Reference Input Voltage. The REF range is from 0.5 V to VDD, and is referred to the GND pin. This pin should be decoupled closely to the pin with a 10 uF capacitor.", 2 VDD (power) "Power Supply.", 3 IN+ (in) "Analog Input. It is referred to IN?. The voltage range, that is, the difference between IN+ and IN-, is 0 V to REF.", 4 IN- (in) "Analog Input Ground Sense. Connect to the analog ground plane or to a remote sense ground.", 5 GND (power) "Power Supply Ground.", 6 CNV (in) "Convert Input. This input has multiple functions. On its leading edge, it initiates the conversions and selects the interface mode, chain, or CS. In CS mode, it enables the SDO pin when low. In chain mode, the data should be (See Datasheet)", 7 SDO (hiz) "Serial Data Output. The conversion result is output on this pin. It is synchronized to SCK.", 8 SCK (in) "Serial Data Clock Input. When the part is selected, the conversion result is shifted out by this clock.", 9 SDI (in) "Serial Data Input. This input provides multiple features. It selects the interface mode of the ADC as follows:Chain mode is selected if SDI is low during the CNV rising edge. In this mode, SDI is used as a data input to (See Datasheet)", 10 VIO (power) "Input/Output Interface Digital Power. Nominally at the same supply as the host interface (1.8 V, 2.5 V, 3 V, or 5 V).", 11 EP (power) "Exposed pad."

## AD7946BRMZ
designator U?
Single 14-Bit PulSAR Analog-to-Digital Converter with Serial, SPI Interface, 500KSPS, -40 to +85 degC, RM-10, Pb-Free, Tube; Generic Part Number: AD7946; Manufacturer: Analog Devices; PartNumber: AD7946BRMZ; Resolution (Bits): 14; Channels: 1; Throughput Rate (SPS): 500K; Interface: Ser, SPI; DatasheetVersion: Rev.A; PackageVersion: May-2005; PackageReference: RM-10; PackageDescription: 10-Lead Mini Small Outline Package [MSOP]; Supplier 1: Digi-Key; Supplier Part Number 1: AD7946BRMZ-ND; Supplier 2: Farnell; Supplier Part Number 2: 1438865; Supplier 3: Newark; Supplier Part Number 3: 15P0902; Supplier 4: Mouser; Supplier Part Number 4: 584-AD7946BRMZ; RoHS: Y; Packing: Tube; Mounting Technology: Surface Mount; ComponentLink1Description: Manufacturer URL; ComponentLink1URL: http://www.analog.com/en/index.html; ComponentLink2Description: Datasheet; ComponentLink2URL: http://www.analog.com/static/imported-files/data_sheets/AD7946.pdf; ComponentLink3Description: Package Specification; ComponentLink3URL: http://www.analog.com/static/imported-files/packages/PKG_PDF/MSOP%28RM%29/RM_10.pdf; ComponentLink4Description: Product URL; ComponentLink4URL: http://www.analog.com/en/analog-to-digital-converters/ad-converters/ad7946/products/product.html
footprint RM-10_N (TSSOP, 10-Leads, Body 3x3mm, Pitch 0.5mm, IPC Medium Density)
footprint RM-10_L (TSSOP, 10-Leads, Body 3x3mm, Pitch 0.5mm, IPC High Density)
footprint RM-10_M (TSSOP, 10-Leads, Body 3x3mm, Pitch 0.5mm, IPC Low Density)
pins: 1 REF (in) "Reference Input Voltage. The REF range is from 0.5 V to VDD, and is referred to the GND pin. This pin should be decoupled closely to the pin with a 10 uF capacitor.", 2 VDD (power) "Power Supply.", 3 IN+ (in) "Analog Input. It is referred to IN-. The voltage range, that is, the difference between IN+ and IN-, is 0 V to REF.", 4 IN- (in) "Analog Input Ground Sense. Connect to the analog ground plane or to a remote sense ground.", 5 GND (power) "Power Supply Ground.", 6 CNV (in) "Convert Input. This input has multiple functions. On its leading edge, it initiates the conversions and selects the interface mode, chain, or C\S\. In C\S\ mode, it enables the SDO pin when low. In chain mode, the data (See Datasheet)", 7 SDO (hiz) "Serial Data Output. The conversion result is output on this pin. It is synchronized to SCK.", 8 SCK (in) "Serial Data Clock Input. When the part is selected, the conversion result is shifted out by this clock.", 9 SDI (in) "Serial Data Input. This input provides multiple features. It selects the interface mode of the ADC as follows: Chain mode is selected if SDI is low during the CNV rising edge. In this mode, SDI is used as a data input to (See Datasheet)", 10 VIO (power) "Input/Output Interface Digital Power. Nominally at the same supply as the host interface (1.8 V, 2.5 V, 3 V, or 5 V)."

## AD7946BRMZRL7
designator U?
Single 14-Bit PulSAR Analog-to-Digital Converter with Serial, SPI Interface, 500KSPS, -40 to +85 degC, RM-10, Pb-Free, Reel; Generic Part Number: AD7946; Manufacturer: Analog Devices; PartNumber: AD7946BRMZRL7; Resolution (Bits): 14; Channels: 1; Throughput Rate (SPS): 500K; Interface: Ser, SPI; DatasheetVersion: Rev.A; PackageVersion: May-2005; PackageReference: RM-10; PackageDescription: 10-Lead Mini Small Outline Package [MSOP]; Supplier 1: Digi-Key; Supplier Part Number 1: AD7946BRMZRL7-ND; Supplier 2: Newark; Supplier Part Number 2: 28M4081; Supplier 3: Mouser; Supplier Part Number 3: 584-AD7946BRMZR7; RoHS: Y; Packing: Reel; Mounting Technology: Surface Mount; ComponentLink1Description: Manufacturer URL; ComponentLink1URL: http://www.analog.com/en/index.html; ComponentLink2Description: Datasheet; ComponentLink2URL: http://www.analog.com/static/imported-files/data_sheets/AD7946.pdf; ComponentLink3Description: Package Specification; ComponentLink3URL: http://www.analog.com/static/imported-files/packages/PKG_PDF/MSOP%28RM%29/RM_10.pdf; ComponentLink4Description: Product URL; ComponentLink4URL: http://www.analog.com/en/analog-to-digital-converters/ad-converters/ad7946/products/product.html
footprint RM-10_N (TSSOP, 10-Leads, Body 3x3mm, Pitch 0.5mm, IPC Medium Density)
footprint RM-10_L (TSSOP, 10-Leads, Body 3x3mm, Pitch 0.5mm, IPC High Density)
footprint RM-10_M (TSSOP, 10-Leads, Body 3x3mm, Pitch 0.5mm, IPC Low Density)
pins: 1 REF (in) "Reference Input Voltage. The REF range is from 0.5 V to VDD, and is referred to the GND pin. This pin should be decoupled closely to the pin with a 10 uF capacitor.", 2 VDD (power) "Power Supply.", 3 IN+ (in) "Analog Input. It is referred to IN-. The voltage range, that is, the difference between IN+ and IN-, is 0 V to REF.", 4 IN- (in) "Analog Input Ground Sense. Connect to the analog ground plane or to a remote sense ground.", 5 GND (power) "Power Supply Ground.", 6 CNV (in) "Convert Input. This input has multiple functions. On its leading edge, it initiates the conversions and selects the interface mode, chain, or C\S\. In C\S\ mode, it enables the SDO pin when low. In chain mode, the data (See Datasheet)", 7 SDO (hiz) "Serial Data Output. The conversion result is output on this pin. It is synchronized to SCK.", 8 SCK (in) "Serial Data Clock Input. When the part is selected, the conversion result is shifted out by this clock.", 9 SDI (in) "Serial Data Input. This input provides multiple features. It selects the interface mode of the ADC as follows: Chain mode is selected if SDI is low during the CNV rising edge. In this mode, SDI is used as a data input to (See Datasheet)", 10 VIO (power) "Input/Output Interface Digital Power. Nominally at the same supply as the host interface (1.8 V, 2.5 V, 3 V, or 5 V)."